# Altium schematic symbol library Schematic_Library_S88N.SchLib: 14 symbols
Pins are listed as number, name and electrical type; pins without a type are passive.

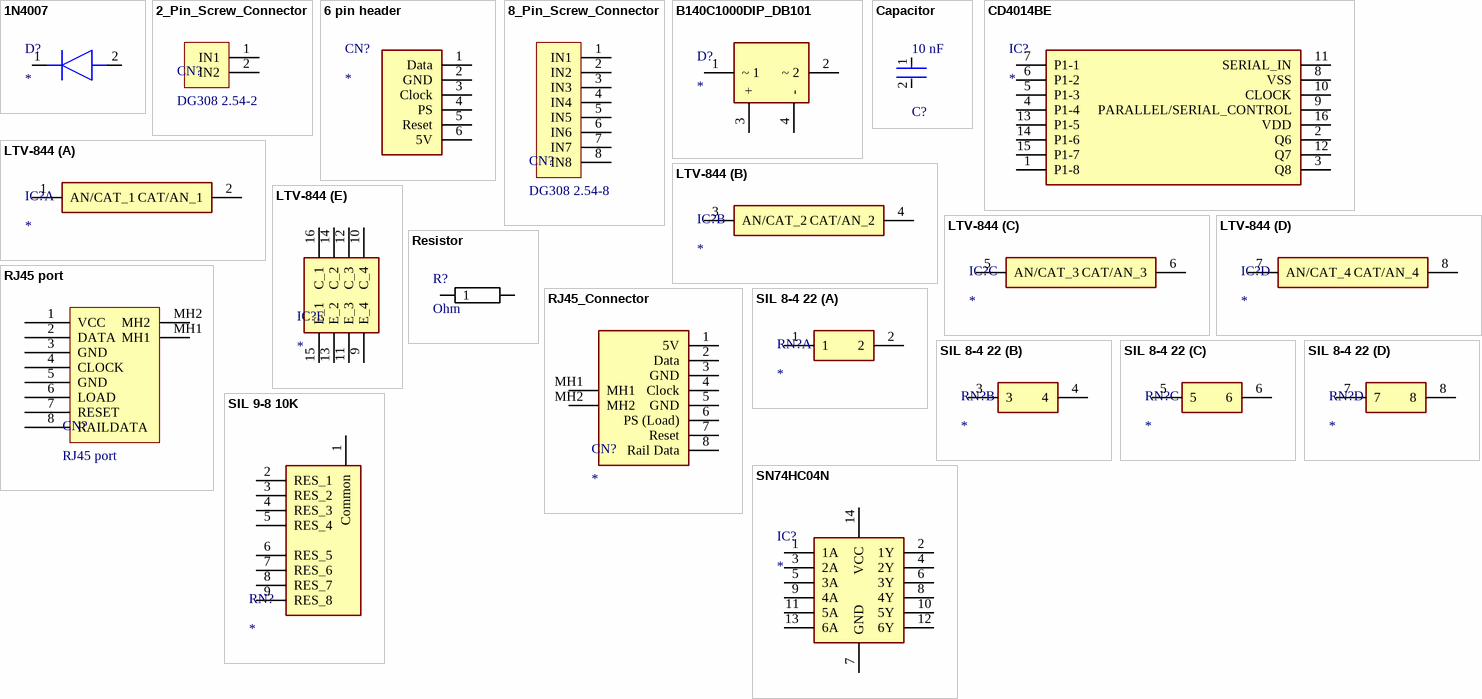
[diagram p0: symbols 1N4007 to SN74HC04N]

## 1N4007
designator D?
Diode; Manufacturer_Name: Diotec; Manufacturer_Part_Number: 1N4007; Datasheet Link: https://diotec.com/tl_files/diotec/files/pdf/datasheets/1n4001.pdf; Mouser Part Number: 637-1N4007; Mouser Price/Stock: https://www.mouser.co.uk/ProductDetail/Diotec-Semiconductor/1N4007?qs=OlC7AqGiEDmK9mU1uTiCkg%3D%3D; Arrow Part Number: 1N4007; Arrow Price/Stock: https://www.arrow.com/en/products/1n4007/diotec-semiconductor-ag?region=europe
footprint 1N4007
pins: 1 K, 2 A

## 2_Pin_Screw_Connector
designator CN?, comment DG308 2.54-2
footprint DG308 2.54-2
pins: 1 IN1, 2 IN2

## 6 pin header
designator CN?
78511-406; Manufacturer_Name: Amphenol Communication Solutions; Datasheet Link: https://cdn.amphenol-cs.com/media/wysiwyg/files/drawing/68000.pdf; Height: 10.62mm; Manufacturer_Part_Number: 78511-406; Mouser Part Number: 649-78511-406; Mouser Price/Stock: https://www.mouser.co.uk/ProductDetail/Amphenol-FCI/78511-406?qs=44C8ns5dLY9MkbPan6dMVA%3D%3D; Arrow Part Number: 78511-406; Arrow Price/Stock: https://www.arrow.com/en/products/78511-406/amphenol-fci
footprint 6 pin header (HDRV6W67P0X254_1X6_1524X241X1062P)
pins: 1 Data, 2 GND, 3 Clock, 4 PS, 5 Reset, 6 5V

## 8_Pin_Screw_Connector
designator CN?, comment DG308 2.54-8
footprint DG308 2.54-8
pins: 1 IN1, 2 IN2, 3 IN3, 4 IN4, 5 IN5, 6 IN6, 7 IN7, 8 IN8

## B140C1000DIP_DB101
designator D?
Bridge Rectifier; Manufacturer_Name: Rectron; Manufacturer_Part_Number: DB101; Datasheet Link: http://www.rectron.com/data_sheets/db101-107.pdf; Height: 4.9mm; Mouser Part Number: 583-DB101; Mouser Price/Stock: https://www.mouser.co.uk/ProductDetail/Rectron/DB101?qs=G5AQjGfRJcKGSaxDP6qXzQ%3D%3D
footprint FBR_B140C1000DIP
pins: 1 ~ 1, 2 ~ 2, 3 +, 4 -

## Capacitor
designator C?, comment 10 nF
Voltage Rating (AC): 500V; Lead Diameter: 0.6mm; Capacitance: 4.7nF; Tolerance: 20%; Lead/Base Style: Kinked; Dielectric: Y5U; Termination: Radial; Resistor Type: Ceramic; Radiation Hardening: No; Diameter: 16mm; Max Operating Temperature: 125°C; Case/Package: Radial; Thickness: 5mm; Lead Pitch: 10mm; Series: VY1; Contact Plating: Tin; Depth: 5mm; RoHS Compliant: Yes; Voltage: 500V; Voltage Rating (DC): 500V; Package Quantity: 500; Construction: RADIAL; Min Operating Temperature: -40°C; Height: 19mm; Height - Seated (Max): 0.787inch; Packaging: Tape and Reel; Mount: Through Hole
footprint Capacitor
pins: 1, 2

## CD4014BE
designator IC?
Integrated Circuit; Manufacturer_Name: Texas Instruments; Manufacturer_Part_Number: CD4014BE; Datasheet Link: http://www.ti.com/lit/gpn/cd4014b; Height: 5.08mm; Mouser Part Number: 595-CD4014BE; Mouser Price/Stock: https://www.mouser.co.uk/ProductDetail/Texas-Instruments/CD4014BE?qs=8k%2FZSzWMuCOtKecuorM4CQ%3D%3D; Arrow Part Number: CD4014BE; Arrow Price/Stock: https://www.arrow.com/en/products/cd4014be/texas-instruments?region=nac
footprint CD4014 (DIP794W53P254L1930H508Q16N)
pins: 1 P1-8, 2 Q6, 3 Q8, 4 P1-4, 5 P1-3, 6 P1-2, 7 P1-1, 8 VSS, 9 PARALLEL/SERIAL_CONTROL, 10 CLOCK, 11 SERIAL_IN, 12 Q7, 13 P1-5, 14 P1-6, 15 P1-7, 16 VDD

## LTV-844
designator IC?
Integrated Circuit; Manufacturer_Name: Lite-On; Manufacturer_Part_Number: LTV-844; Datasheet Link: https://componentsearchengine.com/Datasheets/1/LTV-844.pdf; Height: 4.5mm; Mouser Part Number: 859-LTV-844; Mouser Price/Stock: https://www.mouser.co.uk/ProductDetail/Lite-On/LTV-844?qs=BZ0sscl82p8P4kyBjSwzAg%3D%3D; Arrow Part Number: LTV-844; Arrow Price/Stock: https://www.arrow.com/en/products/ltv-844/lite-on-technology?region=nac
footprint CD4014 (DIP794W53P254L1930H508Q16N)
part A pins: 1 AN/CAT_1, 2 CAT/AN_1
part B pins: 3 AN/CAT_2, 4 CAT/AN_2
part C pins: 5 AN/CAT_3, 6 CAT/AN_3
part D pins: 7 AN/CAT_4, 8 CAT/AN_4
part E pins: 9 E_4, 10 C_4, 11 E_3, 12 C_3, 13 E_2, 14 C_2, 15 E_1, 16 C_1

## Resistor
designator R?, comment Ohm
NexarPartId: 43026420; Power Rating: 3W; Tolerance: 5%; Temperature Coefficient: -10ppm/°C; Resistance: 8.2Ω; Thickness: 4.8006mm; Radiation Hardening: No; Min Operating Temperature: -40°C; Case/Package: Axial; Packaging: Tape & Box (TB); Termination: Axial; Width: 4.8006mm; Military Standard: Not; Diameter: 4.8mm; RoHS: Compliant; Contact Plating: Tin; Composition: Wirewound; Features: Flame Retardant Coating; Number of Terminations: 2; Length: 13mm; Max Power Dissipation: 3W; Mount: Through Hole; Max Operating Temperature: 200°C
footprint 1N4007
pins: 1, 2

## RJ45 port
designator CN?
Connector RJ45
footprint RJ45_Connector (2562910000)
pins: 1 VCC, 2 DATA, 3 GND, 4 CLOCK, 5 GND, 6 LOAD, 7 RESET, 8 RAILDATA, MH1, MH2

## RJ45_Connector
designator CN?
Connector; Manufacturer_Name: Weidmuller; Manufacturer_Part_Number: 2562910000; Datasheet Link: https://catalog.weidmueller.com/catalog/Start.do?localeId=en&ObjectID=2562910000; Height: 13.76mm; Mouser Part Number: 470-2562910000; Mouser Price/Stock: https://www.mouser.co.uk/ProductDetail/Weidmuller/2562910000?qs=w%2Fv1CP2dgqr4xNEXLArdDQ%3D%3D
footprint RJ45_Connector (2562910000)
pins: 1 5V, 2 Data, 3 GND, 4 Clock, 5 GND, 6 PS (Load), 7 Reset, 8 Rail Data, MH1, MH2

## SIL 8-4 22
designator RN?
Resistor Network; Manufacturer_Name: Bourns; Manufacturer_Part_Number: 4608X-102-102LF; Datasheet Link: http://www.bourns.com/pdfs/4600X.pdf; Height: 5.08mm; Mouser Part Number: 652-4608X-2LF-1K; Mouser Price/Stock: https://www.mouser.co.uk/ProductDetail/Bourns/4608X-102-102LF?qs=EFWIAreJVABaVln%252BuPVHjA%3D%3D; Arrow Part Number: 4608X-102-102LF; Arrow Price/Stock: https://www.arrow.com/en/products/4608x-102-102lf/bourns?region=europe
footprint SIL 8-4
part A pins: 1, 2
part B pins: 3, 4
part C pins: 5, 6
part D pins: 7, 8

## SIL 9-8 10K
designator RN?
CSC09A0110K0GEK; Manufacturer_Name: Vishay; Datasheet Link: https://www.vishay.com/docs/31509/csc.pdf; Height: 4.95mm; Manufacturer_Part_Number: CSC09A0110K0GEK; Mouser Part Number: 71-CSC09A0110K0GEK; Mouser Price/Stock: https://www.mouser.co.uk/ProductDetail/Vishay-Dale/CSC09A0110K0GEK?qs=Jzz%252BfO4IBMfusae2i1IhQQ%3D%3D; Arrow Part Number: CSC09A0110K0GEK; Arrow Price/Stock: https://www.arrow.com/en/products/csc09a0110k0gek/vishay
footprint SIL 9-8 10K (CSC09A0110K0GEK)
pins: 1 Common, 2 RES_1, 3 RES_2, 4 RES_3, 5 RES_4, 6 RES_5, 7 RES_6, 8 RES_7, 9 RES_8

## SN74HC04N
designator IC?
Integrated Circuit; Manufacturer_Name: Texas Instruments; Manufacturer_Part_Number: SN74HC04N; Datasheet Link: http://www.ti.com/lit/gpn/sn74hc04; Height: 5.08mm; Mouser Part Number: 595-SN74HC04N; Mouser Price/Stock: https://www.mouser.co.uk/ProductDetail/Texas-Instruments/SN74HC04N?qs=L5CvrNUdZirrSGYiJvTylA%3D%3D; Arrow Part Number: SN74HC04N; Arrow Price/Stock: https://www.arrow.com/en/products/sn74hc04n/texas-instruments?region=nac
footprint SN74HC04
pins: 1 1A, 2 1Y, 3 2A, 4 2Y, 5 3A, 6 3Y, 7 GND, 8 4Y, 9 4A, 10 5Y, 11 5A, 12 6Y, 13 6A, 14 VCC